# EAGLE library part 750313975 (library CM_passives)
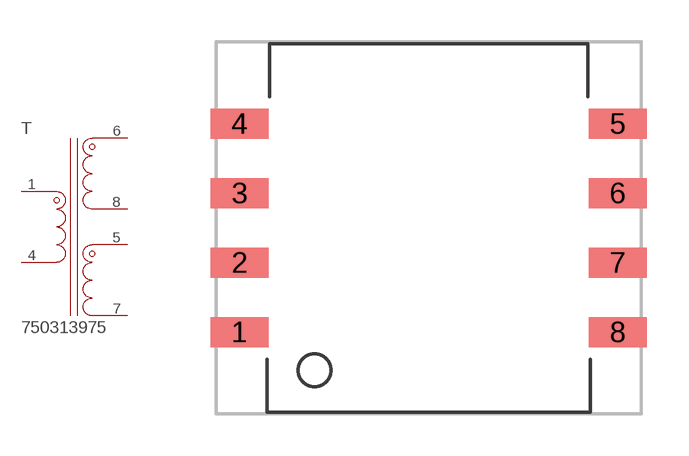
[diagram p0: symbol with the pads of 750313972; footprint 750313972]

Designator prefix T

## 750313975  [750313972]
1  1
4  4
5  5
6  6
7  7
8  8

## Footprint 750313972 (pad centres in mm)
smd 2.08 x 1.07: 1 -6.78,-3.735; 2 -6.78,-1.245; 3 -6.78,1.245; 4 -6.78,3.735; 5 6.78,3.735; 6 6.78,1.245; 7 6.78,-1.245; 8 6.78,-3.735